# EAGLE library part 74AHC14 (library cpu)
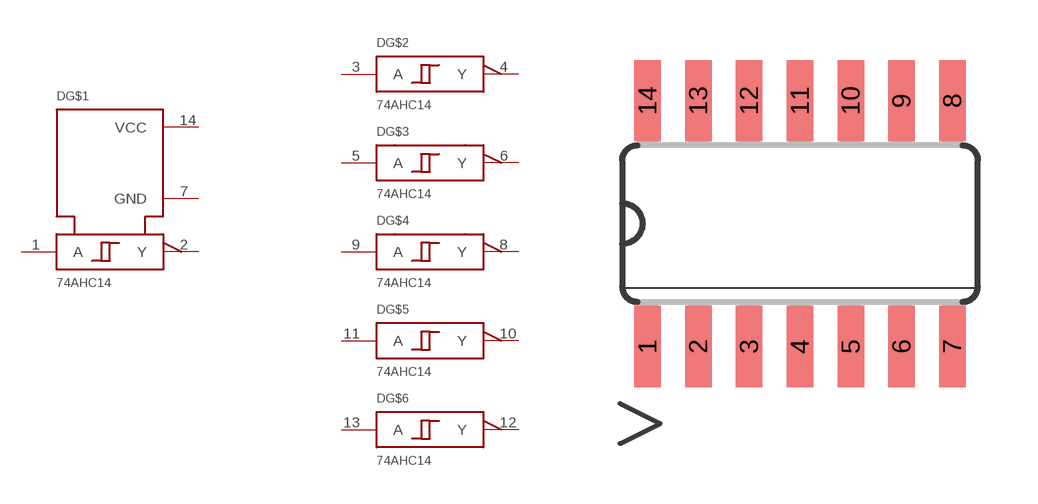
[diagram p10: symbol with the pads of SO14; footprint SO14]

Designator prefix D; gates G$1=7414_PWR G$2=7414_GATE G$3=7414_GATE G$4=7414_GATE G$5=7414_GATE G$6=7414_GATE

## 74AHC14  [SO14]
1  G$1:A
2  G$1:Y
3  G$2:A
4  G$2:Y
5  G$3:A
6  G$3:Y
7  G$1:GND
8  G$4:Y
9  G$4:A
10  G$5:Y
11  G$5:A
12  G$6:Y
13  G$6:A
14  G$1:VCC

## Footprint SO14 (pad centres in mm)
Small Outline package 150 mil
smd 0.66 x 2.032: 1 -3.81,-3.073; 2 -2.54,-3.073; 3 -1.27,-3.073; 4 0,-3.073; 5 1.27,-3.073; 6 2.54,-3.073; 7 3.81,-3.073; 8 3.81,3.073; 9 2.54,3.073; 10 1.27,3.073; 11 0,3.073; 12 -1.27,3.073; 13 -2.54,3.073; 14 -3.81,3.073